# Altium integrated library ON Semi Audio Transistors.IntLib: 150 symbols (part 3 of 4)
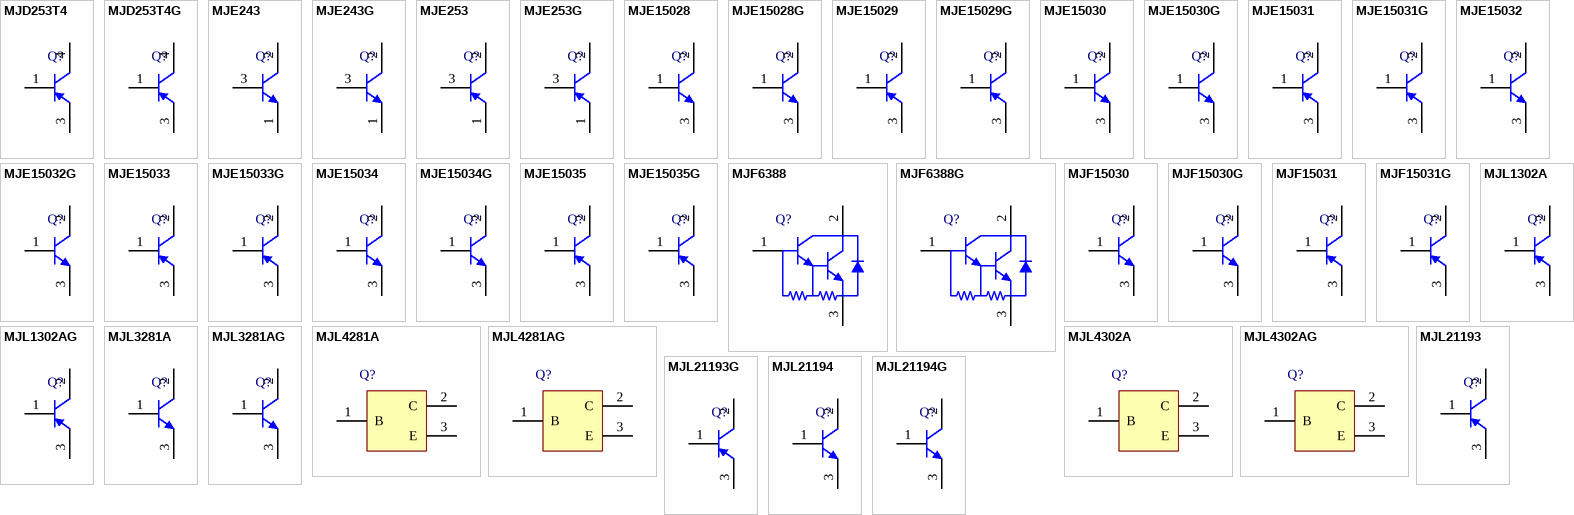
[diagram p5: symbols MJD253T4 to MJL21194G]

## MJE15034G
designator Q?
Complementary Silicon Plastic Power Transistor, NPN Device, 3-Pin TO-220, Pb-Free, Tube; Manufacturer: On Semiconductor; PartNumber: MJE15034G; fT Min (MHz): 30; IC Continuous (A): 4; DatasheetVersion: Rev. 5; PackageVersion: Rev. AG, 09/2011; PackageReference: TO-220-3-221A-09; PackageDescription: 3-Pin Flange Mount, Vertical Straight Lead, Body 9.97 x 4.445 mm, Pitch 2.54 mm; Supplier 1: Digi-Key; Supplier Part Number 1: MJE15034GOS-ND; Supplier 2: Farnell; Supplier Part Number 2: 2101379; Supplier 3: Newark; Supplier Part Number 3: 26K4452; Supplier 4: Mouser; Supplier Part Number 4: 863-MJE15034G; Packing: Tube; Polarity: NPN; RoHS: TRUE; Mounting Technology: Through Hole; ComponentLink1Description: Manufacturer URL; ComponentLink1URL: http://www.onsemi.com/; ComponentLink2Description: Datasheet; ComponentLink2URL: http://www.onsemi.cn/pub_link/Collateral/MJE15034-D.PDF; ComponentLink3Description: Package Specification; ComponentLink3URL: http://www.onsemi.com/pub_link/Collateral/221A-09.PDF
footprint ONSC-TO-220-3-221A-09 (FM, 3-Leads, Body 10.3x4.85mm, Pitch 2.54mm)
pins: 1 B, 2 C, 3 E

## MJE15035
designator Q?
Complementary Silicon Plastic Power Transistor, PNP Device, 3-Pin TO-220, Tube; Manufacturer: On Semiconductor; PartNumber: MJE15035; fT Min (MHz): 30; IC Continuous (A): 4; DatasheetVersion: Rev. 5; PackageVersion: Rev. AG, 09/2011; PackageReference: TO-220-3-221A-09; PackageDescription: 3-Pin Flange Mount, Vertical Straight Lead, Body 9.97 x 4.445 mm, Pitch 2.54 mm; Supplier 1: Digi-Key; Supplier Part Number 1: MJE15035OS-ND; Packing: Tube; Polarity: PNP; RoHS: FALSE; Mounting Technology: Through Hole; ComponentLink1Description: Manufacturer URL; ComponentLink1URL: http://www.onsemi.com/; ComponentLink2Description: Datasheet; ComponentLink2URL: http://www.onsemi.cn/pub_link/Collateral/MJE15034-D.PDF; ComponentLink3Description: Package Specification; ComponentLink3URL: http://www.onsemi.com/pub_link/Collateral/221A-09.PDF
footprint ONSC-TO-220-3-221A-09 (FM, 3-Leads, Body 10.3x4.85mm, Pitch 2.54mm)
pins: 1 B, 2 C, 3 E

## MJE15035G
designator Q?
Complementary Silicon Plastic Power Transistor, PNP Device, 3-Pin TO-220, Pb-Free, Tube; Manufacturer: On Semiconductor; PartNumber: MJE15035G; fT Min (MHz): 30; IC Continuous (A): 4; DatasheetVersion: Rev. 5; PackageVersion: Rev. AG, 09/2011; PackageReference: TO-220-3-221A-09; PackageDescription: 3-Pin Flange Mount, Vertical Straight Lead, Body 9.97 x 4.445 mm, Pitch 2.54 mm; Supplier 1: Digi-Key; Supplier Part Number 1: MJE15035GOS-ND; Supplier 2: Farnell; Supplier Part Number 2: 1861241; Supplier 3: Newark; Supplier Part Number 3: 26K4453; Supplier 4: Mouser; Supplier Part Number 4: 863-MJE15035G; Packing: Tube; Polarity: PNP; RoHS: TRUE; Mounting Technology: Through Hole; ComponentLink1Description: Manufacturer URL; ComponentLink1URL: http://www.onsemi.com/; ComponentLink2Description: Datasheet; ComponentLink2URL: http://www.onsemi.cn/pub_link/Collateral/MJE15034-D.PDF; ComponentLink3Description: Package Specification; ComponentLink3URL: http://www.onsemi.com/pub_link/Collateral/221A-09.PDF
footprint ONSC-TO-220-3-221A-09 (FM, 3-Leads, Body 10.3x4.85mm, Pitch 2.54mm)
pins: 1 B, 2 C, 3 E

## MJF6388
designator Q?
Complementary Power Darlington, for Isolated Package Application, 3-Pin TO-220, Tube; Manufacturer: On Semiconductor; PartNumber: MJF6388; hFE Max: 15000; IC Continuous (A): 10; Polarity: NPN; DatasheetVersion: Rev. 11; PackageVersion: Rev. K, 02/2009; PackageReference: TO-220-3-221D-03; PackageDescription: 3-Pin Flange Mount, Vertical Straight Lead, Body 10.295 x 4.7 mm, Pitch 2.54 mm; Supplier 1: Digi-Key; Supplier Part Number 1: MJF6388OS-ND; Packing: Tube; RoHS: FALSE; Mounting Technology: Through Hole; ComponentLink1Description: Manufacturer URL; ComponentLink1URL: http://www.onsemi.com/; ComponentLink2Description: Datasheet; ComponentLink2URL: http://www.onsemi.cn/pub_link/Collateral/MJF6388-D.PDF; ComponentLink3Description: Package Specification; ComponentLink3URL: http://www.onsemi.com/pub_link/Collateral/221D-03.PDF
footprint ONSC-TO-220-3-221D-03 (FM, 3-Leads, Body 10.65x4.9mm, Pitch 2.54mm)
pins: 1 B, 2 C, 3 E

## MJF6388G
designator Q?
Complementary Power Darlington, for Isolated Package Application, 3-Pin TO-220, Pb-Free, Tube; Manufacturer: On Semiconductor; PartNumber: MJF6388G; hFE Max: 15000; IC Continuous (A): 10; Polarity: NPN; DatasheetVersion: Rev. 11; PackageVersion: Rev. K, 02/2009; PackageReference: TO-220-3-221D-03; PackageDescription: 3-Pin Flange Mount, Vertical Straight Lead, Body 10.295 x 4.7 mm, Pitch 2.54 mm; Supplier 1: Digi-Key; Supplier Part Number 1: MJF6388GOS-ND; Supplier 2: Farnell; Supplier Part Number 2: 1136101; Supplier 3: Newark; Supplier Part Number 3: 26K4480; Supplier 4: Mouser; Supplier Part Number 4: 863-MJF6388G; Packing: Tube; RoHS: TRUE; Mounting Technology: Through Hole; ComponentLink1Description: Manufacturer URL; ComponentLink1URL: http://www.onsemi.com/; ComponentLink2Description: Datasheet; ComponentLink2URL: http://www.onsemi.cn/pub_link/Collateral/MJF6388-D.PDF; ComponentLink3Description: Package Specification; ComponentLink3URL: http://www.onsemi.com/pub_link/Collateral/221D-03.PDF
footprint ONSC-TO-220-3-221D-03 (FM, 3-Leads, Body 10.65x4.9mm, Pitch 2.54mm)
pins: 1 B, 2 C, 3 E

## MJF15030
designator Q?
Complementary Power Transistor, for Isolated Package Application, 3-Pin TO-220, Tube; Manufacturer: On Semiconductor; PartNumber: MJF15030; fT Min (MHz): 30; IC Continuous (A): 8; Polarity: NPN; DatasheetVersion: Rev. 8; PackageVersion: Rev. K, 02/2009; PackageReference: TO-220-3-221D-03; PackageDescription: 3-Pin Flange Mount, Vertical Straight Lead, Body 10.295 x 4.7 mm, Pitch 2.54 mm; Supplier 1: Digi-Key; Supplier Part Number 1: MJF15030OS-ND; Packing: Tube; RoHS: FALSE; Mounting Technology: Through Hole; ComponentLink1Description: Manufacturer URL; ComponentLink1URL: http://www.onsemi.com/; ComponentLink2Description: Datasheet; ComponentLink2URL: http://www.onsemi.cn/pub_link/Collateral/MJF15030-D.PDF; ComponentLink3Description: Package Specification; ComponentLink3URL: http://www.onsemi.com/pub_link/Collateral/221D-03.PDF
footprint ONSC-TO-220-3-221D-03 (FM, 3-Leads, Body 10.65x4.9mm, Pitch 2.54mm)
pins: 1 B, 2 C, 3 E

## MJF15030G
designator Q?
Complementary Power Transistor, for Isolated Package Application, 3-Pin TO-220, Pb-Free, Tube; Manufacturer: On Semiconductor; PartNumber: MJF15030G; fT Min (MHz): 30; IC Continuous (A): 8; Polarity: NPN; DatasheetVersion: Rev. 8; PackageVersion: Rev. K, 02/2009; PackageReference: TO-220-3-221D-03; PackageDescription: 3-Pin Flange Mount, Vertical Straight Lead, Body 10.295 x 4.7 mm, Pitch 2.54 mm; Supplier 1: Digi-Key; Supplier Part Number 1: MJF15030GOS-ND; Supplier 2: Farnell; Supplier Part Number 2: 9556303; Supplier 3: Newark; Supplier Part Number 3: 26K4476; Supplier 4: Mouser; Supplier Part Number 4: 863-MJF15030G; Packing: Tube; RoHS: TRUE; Mounting Technology: Through Hole; ComponentLink1Description: Manufacturer URL; ComponentLink1URL: http://www.onsemi.com/; ComponentLink2Description: Datasheet; ComponentLink2URL: http://www.onsemi.cn/pub_link/Collateral/MJF15030-D.PDF; ComponentLink3Description: Package Specification; ComponentLink3URL: http://www.onsemi.com/pub_link/Collateral/221D-03.PDF
footprint ONSC-TO-220-3-221D-03 (FM, 3-Leads, Body 10.65x4.9mm, Pitch 2.54mm)
pins: 1 B, 2 C, 3 E

## MJF15031
designator Q?
Complementary Power Transistor, for Isolated Package Application, 3-Pin TO-220, Tube; Manufacturer: On Semiconductor; PartNumber: MJF15031; fT Min (MHz): 30; IC Continuous (A): 8; Polarity: PNP; DatasheetVersion: Rev. 8; PackageVersion: Rev. K, 02/2009; PackageReference: TO-220-3-221D-03; PackageDescription: 3-Pin Flange Mount, Vertical Straight Lead, Body 10.295 x 4.7 mm, Pitch 2.54 mm; Supplier 1: Digi-Key; Supplier Part Number 1: MJF15031OS-ND; Packing: Tube; RoHS: FALSE; Mounting Technology: Through Hole; ComponentLink1Description: Manufacturer URL; ComponentLink1URL: http://www.onsemi.com/; ComponentLink2Description: Datasheet; ComponentLink2URL: http://www.onsemi.cn/pub_link/Collateral/MJF15030-D.PDF; ComponentLink3Description: Package Specification; ComponentLink3URL: http://www.onsemi.com/pub_link/Collateral/221D-03.PDF
footprint ONSC-TO-220-3-221D-03 (FM, 3-Leads, Body 10.65x4.9mm, Pitch 2.54mm)
pins: 1 B, 2 C, 3 E

## MJF15031G
designator Q?
Complementary Power Transistor, for Isolated Package Application, 3-Pin TO-220, Pb-Free, Tube; Manufacturer: On Semiconductor; PartNumber: MJF15031G; fT Min (MHz): 30; IC Continuous (A): 8; Polarity: PNP; DatasheetVersion: Rev. 8; PackageVersion: Rev. K, 02/2009; PackageReference: TO-220-3-221D-03; PackageDescription: 3-Pin Flange Mount, Vertical Straight Lead, Body 10.295 x 4.7 mm, Pitch 2.54 mm; Supplier 1: Digi-Key; Supplier Part Number 1: MJF15031GOS-ND; Supplier 2: Farnell; Supplier Part Number 2: 9556311; Supplier 3: Newark; Supplier Part Number 3: 26K4477; Supplier 4: Mouser; Supplier Part Number 4: 863-MJF15031G; Packing: Tube; RoHS: TRUE; Mounting Technology: Through Hole; ComponentLink1Description: Manufacturer URL; ComponentLink1URL: http://www.onsemi.com/; ComponentLink2Description: Datasheet; ComponentLink2URL: http://www.onsemi.cn/pub_link/Collateral/MJF15030-D.PDF; ComponentLink3Description: Package Specification; ComponentLink3URL: http://www.onsemi.com/pub_link/Collateral/221D-03.PDF
footprint ONSC-TO-220-3-221D-03 (FM, 3-Leads, Body 10.65x4.9mm, Pitch 2.54mm)
pins: 1 B, 2 C, 3 E

## MJL1302A
designator Q?
Complementary Bipolar Power Transistor, 3-Pin TO-3BPL, Tube; Manufacturer: On Semiconductor; PartNumber: MJL1302A; fT Min (MHz): 30; hFE Max: 150; IC Continuous (A): 15; Polarity: PNP; DatasheetVersion: Rev. 11; PackageVersion: Rev. J, 12/2004; PackageReference: TO-3BPL-3-340G-02; PackageDescription: 3-Pin Flange Mount, Vertical Straight Lead, Body 19.8 x 5 mm, Pitch 5.45 mm; Supplier 1: Digi-Key; Supplier Part Number 1: MJL1302AOS-ND; Packing: Tube; RoHS: FALSE; Mounting Technology: Through Hole; ComponentLink1Description: Manufacturer URL; ComponentLink1URL: http://www.onsemi.com/; ComponentLink2Description: Datasheet; ComponentLink2URL: http://www.onsemi.cn/pub_link/Collateral/MJL3281A-D.PDF; ComponentLink3Description: Package Specification; ComponentLink3URL: http://www.onsemi.cn/pub_link/Collateral/340G-02.PDF
footprint ONSC-TO-3BPL-3-340G-02 (FM, 3-Leads, Body 20.3x5.3mm, Pitch 5.45mm)
pins: 1 B, 2 C, 3 E

## MJL1302AG
designator Q?
Complementary Bipolar Power Transistor, 3-Pin TO-3BPL, Pb-Free, Tube; Manufacturer: On Semiconductor; PartNumber: MJL1302AG; fT Min (MHz): 30; hFE Max: 150; IC Continuous (A): 15; Polarity: PNP; DatasheetVersion: Rev. 11; PackageVersion: Rev. J, 12/2004; PackageReference: TO-3BPL-3-340G-02; PackageDescription: 3-Pin Flange Mount, Vertical Straight Lead, Body 19.8 x 5 mm, Pitch 5.45 mm; Supplier 1: Digi-Key; Supplier Part Number 1: MJL1302AGOS-ND; Supplier 2: Farnell; Supplier Part Number 2: 9557040; Supplier 3: Newark; Supplier Part Number 3: 26K4489; Supplier 4: Mouser; Supplier Part Number 4: 863-MJL1302AG; Packing: Tube; RoHS: TRUE; Mounting Technology: Through Hole; ComponentLink1Description: Manufacturer URL; ComponentLink1URL: http://www.onsemi.com/; ComponentLink2Description: Datasheet; ComponentLink2URL: http://www.onsemi.cn/pub_link/Collateral/MJL3281A-D.PDF; ComponentLink3Description: Package Specification; ComponentLink3URL: http://www.onsemi.cn/pub_link/Collateral/340G-02.PDF
footprint ONSC-TO-3BPL-3-340G-02 (FM, 3-Leads, Body 20.3x5.3mm, Pitch 5.45mm)
pins: 1 B, 2 C, 3 E

## MJL3281A
designator Q?
Complementary Bipolar Power Transistor, 3-Pin TO-3BPL, Tube; Manufacturer: On Semiconductor; PartNumber: MJL3281A; fT Min (MHz): 30; hFE Max: 150; IC Continuous (A): 15; Polarity: NPN; DatasheetVersion: Rev. 11; PackageVersion: Rev. J, 12/2004; PackageReference: TO-3BPL-3-340G-02; PackageDescription: 3-Pin Flange Mount, Vertical Straight Lead, Body 19.8 x 5 mm, Pitch 5.45 mm; Supplier 1: Digi-Key; Supplier Part Number 1: MJL3281AOS-ND; Packing: Tube; RoHS: FALSE; Mounting Technology: Through Hole; ComponentLink1Description: Manufacturer URL; ComponentLink1URL: http://www.onsemi.com/; ComponentLink2Description: Datasheet; ComponentLink2URL: http://www.onsemi.cn/pub_link/Collateral/MJL3281A-D.PDF; ComponentLink3Description: Package Specification; ComponentLink3URL: http://www.onsemi.cn/pub_link/Collateral/340G-02.PDF
footprint ONSC-TO-3BPL-3-340G-02 (FM, 3-Leads, Body 20.3x5.3mm, Pitch 5.45mm)
pins: 1 B, 2 C, 3 E

## MJL3281AG
designator Q?
Complementary Bipolar Power Transistor, 3-Pin TO-3BPL, Pb-Free, Tube; Manufacturer: On Semiconductor; PartNumber: MJL3281AG; fT Min (MHz): 30; hFE Max: 150; IC Continuous (A): 15; Polarity: NPN; DatasheetVersion: Rev. 11; PackageVersion: Rev. J, 12/2004; PackageReference: TO-3BPL-3-340G-02; PackageDescription: 3-Pin Flange Mount, Vertical Straight Lead, Body 19.8 x 5 mm, Pitch 5.45 mm; Supplier 1: Digi-Key; Supplier Part Number 1: MJL3281AGOS-ND; Supplier 2: Farnell; Supplier Part Number 2: 1172585; Supplier 3: Mouser; Supplier Part Number 3: 863-MJL3281AG; Packing: Tube; RoHS: TRUE; Mounting Technology: Through Hole; ComponentLink1Description: Manufacturer URL; ComponentLink1URL: http://www.onsemi.com/; ComponentLink2Description: Datasheet; ComponentLink2URL: http://www.onsemi.cn/pub_link/Collateral/MJL3281A-D.PDF; ComponentLink3Description: Package Specification; ComponentLink3URL: http://www.onsemi.cn/pub_link/Collateral/340G-02.PDF
footprint ONSC-TO-3BPL-3-340G-02 (FM, 3-Leads, Body 20.3x5.3mm, Pitch 5.45mm)
pins: 1 B, 2 C, 3 E

## MJL4281A
designator Q?
Complementary NPN Silicon Power Bipolar Transistor, 3-Pin TO-3BPL, Tube; Manufacturer: On Semiconductor; PartNumber: MJL4281A; fT Min (MHz): 35; hFE Max: 250; IC Continuous (A): 15; DatasheetVersion: Rev. 3; PackageVersion: Rev. J, 12/2004; PackageReference: TO-3BPL-3-340G-02; PackageDescription: 3-Pin Flange Mount, Vertical Straight Lead, Body 19.8 x 5 mm, Pitch 5.45 mm; Supplier 1: Digi-Key; Supplier Part Number 1: MJL4281AOS-ND; Packing: Tube; Polarity: NPN; RoHS: FALSE; Mounting Technology: Through Hole; ComponentLink1Description: Manufacturer URL; ComponentLink1URL: http://www.onsemi.com/; ComponentLink2Description: Datasheet; ComponentLink2URL: http://www.onsemi.cn/pub_link/Collateral/MJL4281A-D.PDF; ComponentLink3Description: Package Specification; ComponentLink3URL: http://www.onsemi.cn/pub_link/Collateral/340G-02.PDF
footprint ONSC-TO-3BPL-3-340G-02 (FM, 3-Leads, Body 20.3x5.3mm, Pitch 5.45mm)
pins: 1 B, 2 C, 3 E

## MJL4281AG
designator Q?
Complementary NPN Silicon Power Bipolar Transistor, 3-Pin TO-3BPL, Pb-Free, Tube; Manufacturer: On Semiconductor; PartNumber: MJL4281AG; fT Min (MHz): 35; hFE Max: 250; IC Continuous (A): 15; DatasheetVersion: Rev. 3; PackageVersion: Rev. J, 12/2004; PackageReference: TO-3BPL-3-340G-02; PackageDescription: 3-Pin Flange Mount, Vertical Straight Lead, Body 19.8 x 5 mm, Pitch 5.45 mm; Supplier 1: Digi-Key; Supplier Part Number 1: MJL4281AGOS-ND; Supplier 2: Farnell; Supplier Part Number 2: 2101383; Supplier 3: Newark; Supplier Part Number 3: 26K4494; Supplier 4: Mouser; Supplier Part Number 4: 863-MJL4281AG; Packing: Tube; Polarity: NPN; RoHS: TRUE; Mounting Technology: Through Hole; ComponentLink1Description: Manufacturer URL; ComponentLink1URL: http://www.onsemi.com/; ComponentLink2Description: Datasheet; ComponentLink2URL: http://www.onsemi.cn/pub_link/Collateral/MJL4281A-D.PDF; ComponentLink3Description: Package Specification; ComponentLink3URL: http://www.onsemi.cn/pub_link/Collateral/340G-02.PDF
footprint ONSC-TO-3BPL-3-340G-02 (FM, 3-Leads, Body 20.3x5.3mm, Pitch 5.45mm)
pins: 1 B, 2 C, 3 E

## MJL4302A
designator Q?
Complementary PNP Silicon Power Bipolar Transistor, 3-Pin TO-3BPL, Tube; Manufacturer: On Semiconductor; PartNumber: MJL4302A; fT Min (MHz): 35; hFE Max: 250; IC Continuous (A): 15; DatasheetVersion: Rev. 3; PackageVersion: Rev. J, 12/2004; PackageReference: TO-3BPL-3-340G-02; PackageDescription: 3-Pin Flange Mount, Vertical Straight Lead, Body 19.8 x 5 mm, Pitch 5.45 mm; Supplier 1: Digi-Key; Supplier Part Number 1: MJL4302AOS-ND; Packing: Tube; Polarity: PNP; RoHS: FALSE; Mounting Technology: Through Hole; ComponentLink1Description: Manufacturer URL; ComponentLink1URL: http://www.onsemi.com/; ComponentLink2Description: Datasheet; ComponentLink2URL: http://www.onsemi.cn/pub_link/Collateral/MJL4281A-D.PDF; ComponentLink3Description: Package Specification; ComponentLink3URL: http://www.onsemi.cn/pub_link/Collateral/340G-02.PDF
footprint ONSC-TO-3BPL-3-340G-02 (FM, 3-Leads, Body 20.3x5.3mm, Pitch 5.45mm)
pins: 1 B, 2 C, 3 E

## MJL4302AG
designator Q?
Complementary PNP Silicon Power Bipolar Transistor, 3-Pin TO-3BPL, Pb-Free, Tube; Manufacturer: On Semiconductor; PartNumber: MJL4302AG; fT Min (MHz): 35; hFE Max: 250; IC Continuous (A): 15; DatasheetVersion: Rev. 3; PackageVersion: Rev. J, 12/2004; PackageReference: TO-3BPL-3-340G-02; PackageDescription: 3-Pin Flange Mount, Vertical Straight Lead, Body 19.8 x 5 mm, Pitch 5.45 mm; Supplier 1: Digi-Key; Supplier Part Number 1: MJL4302AGOS-ND; Supplier 2: Farnell; Supplier Part Number 2: 1861242; Supplier 3: Newark; Supplier Part Number 3: 26K4495; Supplier 4: Mouser; Supplier Part Number 4: 863-MJL4302AG; Packing: Tube; Polarity: PNP; RoHS: TRUE; Mounting Technology: Through Hole; ComponentLink1Description: Manufacturer URL; ComponentLink1URL: http://www.onsemi.com/; ComponentLink2Description: Datasheet; ComponentLink2URL: http://www.onsemi.cn/pub_link/Collateral/MJL4281A-D.PDF; ComponentLink3Description: Package Specification; ComponentLink3URL: http://www.onsemi.cn/pub_link/Collateral/340G-02.PDF
footprint ONSC-TO-3BPL-3-340G-02 (FM, 3-Leads, Body 20.3x5.3mm, Pitch 5.45mm)
pins: 1 B, 2 C, 3 E

## MJL21193
designator Q?
Silicon Power Transistor, 3-Pin TO-3BPL, Tube; Manufacturer: On Semiconductor; PartNumber: MJL21193; fT Min (MHz): 4; hFE Max: 75; IC Continuous (A): 16; Polarity: PNP; DatasheetVersion: Rev. 7; PackageVersion: Rev. J, 12/2004; PackageReference: TO-3BPL-3-340G-02; PackageDescription: 3-Pin Flange Mount, Vertical Straight Lead, Body 19.8 x 5 mm, Pitch 5.45 mm; Supplier 1: Digi-Key; Supplier Part Number 1: MJL21193OS-ND; Packing: Tube; RoHS: FALSE; Mounting Technology: Through Hole; ComponentLink1Description: Manufacturer URL; ComponentLink1URL: http://www.onsemi.com/; ComponentLink2Description: Datasheet; ComponentLink2URL: http://www.onsemi.cn/pub_link/Collateral/MJL21193-D.PDF; ComponentLink3Description: Package Specification; ComponentLink3URL: http://www.onsemi.cn/pub_link/Collateral/340G-02.PDF
footprint ONSC-TO-3BPL-3-340G-02 (FM, 3-Leads, Body 20.3x5.3mm, Pitch 5.45mm)
pins: 1 B, 2 C, 3 E

## MJL21193G
designator Q?
Silicon Power Transistor, 3-Pin TO-3BPL, Pb-Free, Tube; Manufacturer: On Semiconductor; PartNumber: MJL21193G; fT Min (MHz): 4; hFE Max: 75; IC Continuous (A): 16; Polarity: PNP; DatasheetVersion: Rev. 7; PackageVersion: Rev. J, 12/2004; PackageReference: TO-3BPL-3-340G-02; PackageDescription: 3-Pin Flange Mount, Vertical Straight Lead, Body 19.8 x 5 mm, Pitch 5.45 mm; Supplier 1: Digi-Key; Supplier Part Number 1: MJL21193GOS-ND; Supplier 2: Farnell; Supplier Part Number 2: 9555781; Supplier 3: Newark; Supplier Part Number 3: 26K4490; Supplier 4: Mouser; Supplier Part Number 4: 863-MJL21193G; Packing: Tube; RoHS: TRUE; Mounting Technology: Through Hole; ComponentLink1Description: Manufacturer URL; ComponentLink1URL: http://www.onsemi.com/; ComponentLink2Description: Datasheet; ComponentLink2URL: http://www.onsemi.cn/pub_link/Collateral/MJL21193-D.PDF; ComponentLink3Description: Package Specification; ComponentLink3URL: http://www.onsemi.cn/pub_link/Collateral/340G-02.PDF
footprint ONSC-TO-3BPL-3-340G-02 (FM, 3-Leads, Body 20.3x5.3mm, Pitch 5.45mm)
pins: 1 B, 2 C, 3 E

## MJL21194
designator Q?
Silicon Power Transistor, 3-Pin TO-3BPL, Tube; Manufacturer: On Semiconductor; PartNumber: MJL21194; fT Min (MHz): 4; hFE Max: 75; IC Continuous (A): 16; Polarity: NPN; DatasheetVersion: Rev. 7; PackageVersion: Rev. J, 12/2004; PackageReference: TO-3BPL-3-340G-02; PackageDescription: 3-Pin Flange Mount, Vertical Straight Lead, Body 19.8 x 5 mm, Pitch 5.45 mm; Supplier 1: Digi-Key; Supplier Part Number 1: MJL21194OS-ND; Supplier 2: Newark; Supplier Part Number 2: 07F8487; Packing: Tube; RoHS: FALSE; Mounting Technology: Through Hole; ComponentLink1Description: Manufacturer URL; ComponentLink1URL: http://www.onsemi.com/; ComponentLink2Description: Datasheet; ComponentLink2URL: http://www.onsemi.cn/pub_link/Collateral/MJL21193-D.PDF; ComponentLink3Description: Package Specification; ComponentLink3URL: http://www.onsemi.cn/pub_link/Collateral/340G-02.PDF
footprint ONSC-TO-3BPL-3-340G-02 (FM, 3-Leads, Body 20.3x5.3mm, Pitch 5.45mm)
pins: 1 B, 2 C, 3 E

## MJL21194G
designator Q?
Silicon Power Transistor, 3-Pin TO-3BPL, Pb-Free, Tube; Manufacturer: On Semiconductor; PartNumber: MJL21194G; fT Min (MHz): 4; hFE Max: 75; IC Continuous (A): 16; Polarity: NPN; DatasheetVersion: Rev. 7; PackageVersion: Rev. J, 12/2004; PackageReference: TO-3BPL-3-340G-02; PackageDescription: 3-Pin Flange Mount, Vertical Straight Lead, Body 19.8 x 5 mm, Pitch 5.45 mm; Supplier 1: Digi-Key; Supplier Part Number 1: MJL21194GOS-ND; Supplier 2: Farnell; Supplier Part Number 2: 9555790; Supplier 3: Newark; Supplier Part Number 3: 26K4491; Supplier 4: Mouser; Supplier Part Number 4: 863-MJL21194G; Packing: Tube; RoHS: TRUE; Mounting Technology: Through Hole; ComponentLink1Description: Manufacturer URL; ComponentLink1URL: http://www.onsemi.com/; ComponentLink2Description: Datasheet; ComponentLink2URL: http://www.onsemi.cn/pub_link/Collateral/MJL21193-D.PDF; ComponentLink3Description: Package Specification; ComponentLink3URL: http://www.onsemi.cn/pub_link/Collateral/340G-02.PDF
footprint ONSC-TO-3BPL-3-340G-02 (FM, 3-Leads, Body 20.3x5.3mm, Pitch 5.45mm)
pins: 1 B, 2 C, 3 E

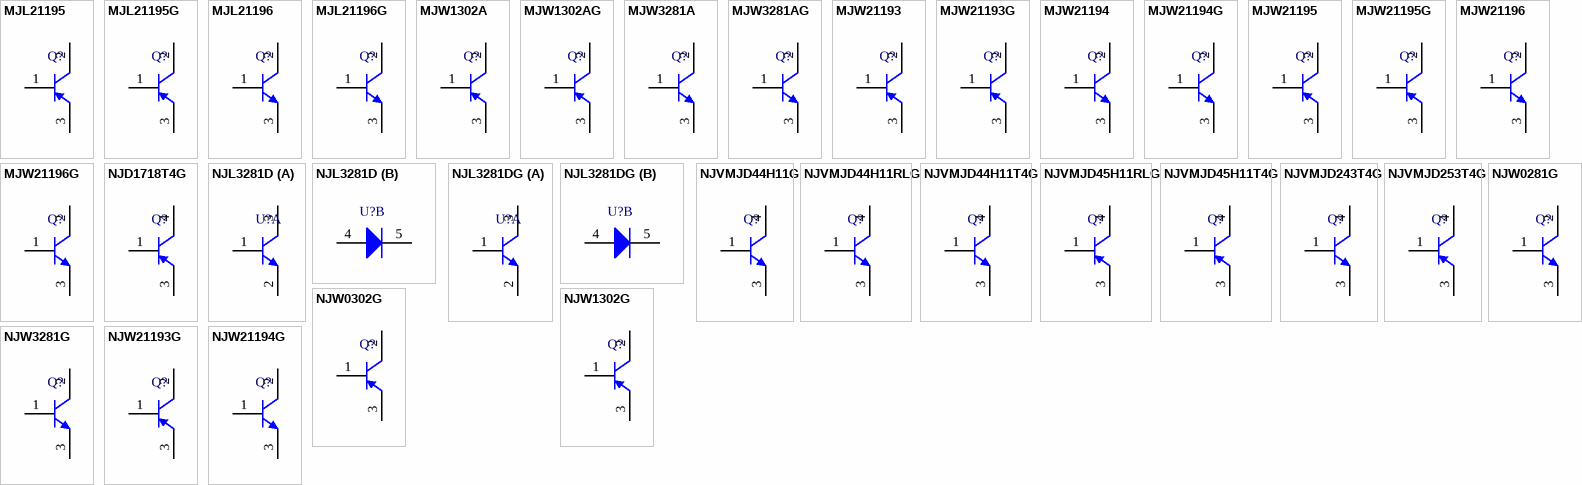
[diagram p3: symbols MJL21195 to NJW21194G]

## MJL21195
designator Q?
Silicon Power Transistor, 3-Pin TO-3BPL, Tube; Manufacturer: On Semiconductor; PartNumber: MJL21195; fT Min (MHz): 4; hFE Max: 100; IC Continuous (A): 16; Polarity: PNP; DatasheetVersion: Rev. 5; PackageVersion: Rev. J, 12/2004; PackageReference: TO-3BPL-3-340G-02; PackageDescription: 3-Pin Flange Mount, Vertical Straight Lead, Body 19.8 x 5 mm, Pitch 5.45 mm; Supplier 1: Digi-Key; Supplier Part Number 1: MJL21195OS-ND; Packing: Tube; RoHS: FALSE; Mounting Technology: Through Hole; ComponentLink1Description: Manufacturer URL; ComponentLink1URL: http://www.onsemi.com/; ComponentLink2Description: Datasheet; ComponentLink2URL: http://www.onsemi.com/pub_link/Collateral/MJL21195-D.PDF; ComponentLink3Description: Package Specification; ComponentLink3URL: http://www.onsemi.cn/pub_link/Collateral/340G-02.PDF
footprint ONSC-TO-3BPL-3-340G-02 (FM, 3-Leads, Body 20.3x5.3mm, Pitch 5.45mm)
pins: 1 B, 2 C, 3 E

## MJL21195G
designator Q?
Silicon Power Transistor, 3-Pin TO-3BPL, Pb-Free, Tube; Manufacturer: On Semiconductor; PartNumber: MJL21195G; fT Min (MHz): 4; hFE Max: 100; IC Continuous (A): 16; Polarity: PNP; DatasheetVersion: Rev. 5; PackageVersion: Rev. J, 12/2004; PackageReference: TO-3BPL-3-340G-02; PackageDescription: 3-Pin Flange Mount, Vertical Straight Lead, Body 19.8 x 5 mm, Pitch 5.45 mm; Supplier 1: Digi-Key; Supplier Part Number 1: MJL21195GOS-ND; Supplier 2: Newark; Supplier Part Number 2: 26K4492; Supplier 3: Mouser; Supplier Part Number 3: 863-MJL21195G; Packing: Tube; RoHS: TRUE; Mounting Technology: Through Hole; ComponentLink1Description: Manufacturer URL; ComponentLink1URL: http://www.onsemi.com/; ComponentLink2Description: Datasheet; ComponentLink2URL: http://www.onsemi.com/pub_link/Collateral/MJL21195-D.PDF; ComponentLink3Description: Package Specification; ComponentLink3URL: http://www.onsemi.cn/pub_link/Collateral/340G-02.PDF
footprint ONSC-TO-3BPL-3-340G-02 (FM, 3-Leads, Body 20.3x5.3mm, Pitch 5.45mm)
pins: 1 B, 2 C, 3 E

## MJL21196
designator Q?
Silicon Power Transistor, 3-Pin TO-3BPL, Tube; Manufacturer: On Semiconductor; PartNumber: MJL21196; fT Min (MHz): 4; hFE Max: 100; IC Continuous (A): 16; Polarity: NPN; DatasheetVersion: Rev. 5; PackageVersion: Rev. J, 12/2004; PackageReference: TO-3BPL-3-340G-02; PackageDescription: 3-Pin Flange Mount, Vertical Straight Lead, Body 19.8 x 5 mm, Pitch 5.45 mm; Supplier 1: Digi-Key; Supplier Part Number 1: MJL21196OS-ND; Packing: Tube; RoHS: FALSE; Mounting Technology: Through Hole; ComponentLink1Description: Manufacturer URL; ComponentLink1URL: http://www.onsemi.com/; ComponentLink2Description: Datasheet; ComponentLink2URL: http://www.onsemi.com/pub_link/Collateral/MJL21195-D.PDF; ComponentLink3Description: Package Specification; ComponentLink3URL: http://www.onsemi.cn/pub_link/Collateral/340G-02.PDF
footprint ONSC-TO-3BPL-3-340G-02 (FM, 3-Leads, Body 20.3x5.3mm, Pitch 5.45mm)
pins: 1 B, 2 C, 3 E

## MJL21196G
designator Q?
Silicon Power Transistor, 3-Pin TO-3BPL, Pb-Free, Tube; Manufacturer: On Semiconductor; PartNumber: MJL21196G; fT Min (MHz): 4; hFE Max: 100; IC Continuous (A): 16; Polarity: NPN; DatasheetVersion: Rev. 5; PackageVersion: Rev. J, 12/2004; PackageReference: TO-3BPL-3-340G-02; PackageDescription: 3-Pin Flange Mount, Vertical Straight Lead, Body 19.8 x 5 mm, Pitch 5.45 mm; Supplier 1: Digi-Key; Supplier Part Number 1: MJL21196GOS-ND; Supplier 2: Newark; Supplier Part Number 2: 26K4493; Supplier 3: Mouser; Supplier Part Number 3: 863-MJL21196G; Packing: Tube; RoHS: TRUE; Mounting Technology: Through Hole; ComponentLink1Description: Manufacturer URL; ComponentLink1URL: http://www.onsemi.com/; ComponentLink2Description: Datasheet; ComponentLink2URL: http://www.onsemi.com/pub_link/Collateral/MJL21195-D.PDF; ComponentLink3Description: Package Specification; ComponentLink3URL: http://www.onsemi.cn/pub_link/Collateral/340G-02.PDF
footprint ONSC-TO-3BPL-3-340G-02 (FM, 3-Leads, Body 20.3x5.3mm, Pitch 5.45mm)
pins: 1 B, 2 C, 3 E

## MJW1302A
designator Q?
Complementary PNP Silicon Power Bipolar Transistor, 3-Pin TO-247, Tube; Manufacturer: On Semiconductor; PartNumber: MJW1302A; hFE Max: 200; IC Continuous (A): 15; DatasheetVersion: Rev. 4; PackageVersion: Rev. F, 10/2011; PackageReference: TO-247-3-340L-02; PackageDescription: 3-Pin Flange Mount, Vertical Straight Lead, Body 16.005 x 5 mm, Pitch 5.45 mm; Supplier 1: Digi-Key; Supplier Part Number 1: MJW1302AOS-ND; Packing: Tube; Polarity: PNP; RoHS: FALSE; Mounting Technology: Through Hole; ComponentLink1Description: Manufacturer URL; ComponentLink1URL: http://www.onsemi.com/; ComponentLink2Description: Datasheet; ComponentLink2URL: http://www.onsemi.cn/pub_link/Collateral/MJW3281A-D.PDF; ComponentLink3Description: Package Specification; ComponentLink3URL: http://www.onsemi.cn/pub_link/Collateral/340L-02.PDF
footprint ONSC-TO-247-3-340L-02 (FM, 3-Leads, Body 16.3x5.3mm, Pitch 5.45mm)
pins: 1 B, 2 C, 3 E

## MJW1302AG
designator Q?
Complementary PNP Silicon Power Bipolar Transistor, 3-Pin TO-247, Pb-Free, Tube; Manufacturer: On Semiconductor; PartNumber: MJW1302AG; hFE Max: 200; IC Continuous (A): 15; DatasheetVersion: Rev. 4; PackageVersion: Rev. F, 10/2011; PackageReference: TO-247-3-340L-02; PackageDescription: 3-Pin Flange Mount, Vertical Straight Lead, Body 16.005 x 5 mm, Pitch 5.45 mm; Supplier 1: Digi-Key; Supplier Part Number 1: MJW1302AGOS-ND; Supplier 2: Farnell; Supplier Part Number 2: 1705822; Supplier 3: Newark; Supplier Part Number 3: 26K4496; Supplier 4: Mouser; Supplier Part Number 4: 863-MJW1302AG; Packing: Tube; Polarity: PNP; RoHS: TRUE; Mounting Technology: Through Hole; ComponentLink1Description: Manufacturer URL; ComponentLink1URL: http://www.onsemi.com/; ComponentLink2Description: Datasheet; ComponentLink2URL: http://www.onsemi.cn/pub_link/Collateral/MJW3281A-D.PDF; ComponentLink3Description: Package Specification; ComponentLink3URL: http://www.onsemi.cn/pub_link/Collateral/340L-02.PDF
footprint ONSC-TO-247-3-340L-02 (FM, 3-Leads, Body 16.3x5.3mm, Pitch 5.45mm)
pins: 1 B, 2 C, 3 E

## MJW3281A
designator Q?
Complementary NPN Silicon Power Bipolar Transistor, 3-Pin TO-247, Tube; Manufacturer: On Semiconductor; PartNumber: MJW3281A; hFE Max: 200; IC Continuous (A): 15; DatasheetVersion: Rev. 4; PackageVersion: Rev. F, 10/2011; PackageReference: TO-247-3-340L-02; PackageDescription: 3-Pin Flange Mount, Vertical Straight Lead, Body 16.005 x 5 mm, Pitch 5.45 mm; Supplier 1: Digi-Key; Supplier Part Number 1: MJW3281AOS-ND; Packing: Tube; Polarity: NPN; RoHS: FALSE; Mounting Technology: Through Hole; ComponentLink1Description: Manufacturer URL; ComponentLink1URL: http://www.onsemi.com/; ComponentLink2Description: Datasheet; ComponentLink2URL: http://www.onsemi.cn/pub_link/Collateral/MJW3281A-D.PDF; ComponentLink3Description: Package Specification; ComponentLink3URL: http://www.onsemi.cn/pub_link/Collateral/340L-02.PDF
footprint ONSC-TO-247-3-340L-02 (FM, 3-Leads, Body 16.3x5.3mm, Pitch 5.45mm)
pins: 1 B, 2 C, 3 E

## MJW3281AG
designator Q?
Complementary NPN Silicon Power Bipolar Transistor, 3-Pin TO-247, Pb-Free, Tube; Manufacturer: On Semiconductor; PartNumber: MJW3281AG; hFE Max: 200; IC Continuous (A): 15; DatasheetVersion: Rev. 4; PackageVersion: Rev. F, 10/2011; PackageReference: TO-247-3-340L-02; PackageDescription: 3-Pin Flange Mount, Vertical Straight Lead, Body 16.005 x 5 mm, Pitch 5.45 mm; Supplier 1: Digi-Key; Supplier Part Number 1: MJW3281AGOS-ND; Supplier 2: Newark; Supplier Part Number 2: 26K4503; Supplier 3: Mouser; Supplier Part Number 3: 863-MJW3281AG; Packing: Tube; Polarity: NPN; RoHS: TRUE; Mounting Technology: Through Hole; ComponentLink1Description: Manufacturer URL; ComponentLink1URL: http://www.onsemi.com/; ComponentLink2Description: Datasheet; ComponentLink2URL: http://www.onsemi.cn/pub_link/Collateral/MJW3281A-D.PDF; ComponentLink3Description: Package Specification; ComponentLink3URL: http://www.onsemi.cn/pub_link/Collateral/340L-02.PDF
footprint ONSC-TO-247-3-340L-02 (FM, 3-Leads, Body 16.3x5.3mm, Pitch 5.45mm)
pins: 1 B, 2 C, 3 E

## MJW21193
designator Q?
Silicon Power Transistor, 3-Pin TO-247-3, Tube; Manufacturer: On Semiconductor; PartNumber: MJW21193; fT Min (MHz): 4; hFE Max: 80; IC Continuous (A): 16; Polarity: PNP; DatasheetVersion: Rev. 5; PackageVersion: Rev. F, 10/2011; PackageReference: TO-247-3-340L-02; PackageDescription: 3-Pin Flange Mount, Vertical Straight Lead, Body 16.005 x 5 mm, Pitch 5.45 mm; Supplier 1: Digi-Key; Supplier Part Number 1: MJW21193OS-ND; Packing: Tube; RoHS: FALSE; Mounting Technology: Through Hole; ComponentLink1Description: Manufacturer URL; ComponentLink1URL: http://www.onsemi.com/; ComponentLink2Description: Datasheet; ComponentLink2URL: http://www.onsemi.cn/pub_link/Collateral/MJW21193-D.PDF; ComponentLink3Description: Package Specification; ComponentLink3URL: http://www.onsemi.cn/pub_link/Collateral/340L-02.PDF
footprint ONSC-TO-247-3-340L-02 (FM, 3-Leads, Body 16.3x5.3mm, Pitch 5.45mm)
pins: 1 B, 2 C, 3 E

## MJW21193G
designator Q?
Silicon Power Transistor, 3-Pin TO-247-3, Pb-Free, Tube; Manufacturer: On Semiconductor; PartNumber: MJW21193G; fT Min (MHz): 4; hFE Max: 80; IC Continuous (A): 16; Polarity: PNP; DatasheetVersion: Rev. 5; PackageVersion: Rev. F, 10/2011; PackageReference: TO-247-3-340L-02; PackageDescription: 3-Pin Flange Mount, Vertical Straight Lead, Body 16.005 x 5 mm, Pitch 5.45 mm; Supplier 1: Digi-Key; Supplier Part Number 1: MJW21193GOS-ND; Supplier 2: Farnell; Supplier Part Number 2: 1703988; Supplier 3: Newark; Supplier Part Number 3: 26K4499; Supplier 4: Mouser; Supplier Part Number 4: 863-MJW21193G; Packing: Tube; RoHS: TRUE; Mounting Technology: Through Hole; ComponentLink1Description: Manufacturer URL; ComponentLink1URL: http://www.onsemi.com/; ComponentLink2Description: Datasheet; ComponentLink2URL: http://www.onsemi.cn/pub_link/Collateral/MJW21193-D.PDF; ComponentLink3Description: Package Specification; ComponentLink3URL: http://www.onsemi.cn/pub_link/Collateral/340L-02.PDF
footprint ONSC-TO-247-3-340L-02 (FM, 3-Leads, Body 16.3x5.3mm, Pitch 5.45mm)
pins: 1 B, 2 C, 3 E

## MJW21194
designator Q?
Silicon Power Transistor, 3-Pin TO-247-3, Tube; Manufacturer: On Semiconductor; PartNumber: MJW21194; fT Min (MHz): 4; hFE Max: 80; IC Continuous (A): 16; Polarity: NPN; DatasheetVersion: Rev. 5; PackageVersion: Rev. F, 10/2011; PackageReference: TO-247-3-340L-02; PackageDescription: 3-Pin Flange Mount, Vertical Straight Lead, Body 16.005 x 5 mm, Pitch 5.45 mm; Supplier 1: Digi-Key; Supplier Part Number 1: MJW21194OS-ND; Packing: Tube; RoHS: FALSE; Mounting Technology: Through Hole; ComponentLink1Description: Manufacturer URL; ComponentLink1URL: http://www.onsemi.com/; ComponentLink2Description: Datasheet; ComponentLink2URL: http://www.onsemi.cn/pub_link/Collateral/MJW21193-D.PDF; ComponentLink3Description: Package Specification; ComponentLink3URL: http://www.onsemi.cn/pub_link/Collateral/340L-02.PDF
footprint ONSC-TO-247-3-340L-02 (FM, 3-Leads, Body 16.3x5.3mm, Pitch 5.45mm)
pins: 1 B, 2 C, 3 E

## MJW21194G
designator Q?
Silicon Power Transistor, 3-Pin TO-247-3, Pb-Free, Tube; Manufacturer: On Semiconductor; PartNumber: MJW21194G; fT Min (MHz): 4; hFE Max: 80; IC Continuous (A): 16; Polarity: NPN; DatasheetVersion: Rev. 5; PackageVersion: Rev. F, 10/2011; PackageReference: TO-247-3-340L-02; PackageDescription: 3-Pin Flange Mount, Vertical Straight Lead, Body 16.005 x 5 mm, Pitch 5.45 mm; Supplier 1: Digi-Key; Supplier Part Number 1: MJW21194GOS-ND; Supplier 2: Farnell; Supplier Part Number 2: 1703989; Supplier 3: Newark; Supplier Part Number 3: 26K4500; Supplier 4: Mouser; Supplier Part Number 4: 863-MJW21194G; Packing: Tube; RoHS: TRUE; Mounting Technology: Through Hole; ComponentLink1Description: Manufacturer URL; ComponentLink1URL: http://www.onsemi.com/; ComponentLink2Description: Datasheet; ComponentLink2URL: http://www.onsemi.cn/pub_link/Collateral/MJW21193-D.PDF; ComponentLink3Description: Package Specification; ComponentLink3URL: http://www.onsemi.cn/pub_link/Collateral/340L-02.PDF
footprint ONSC-TO-247-3-340L-02 (FM, 3-Leads, Body 16.3x5.3mm, Pitch 5.45mm)
pins: 1 B, 2 C, 3 E

## MJW21195
designator Q?
Silicon Power Transistor, 3-Pin TO-247-3, Tube; Manufacturer: On Semiconductor; PartNumber: MJW21195; fT Min (MHz): 4; hFE Max: 80; IC Continuous (A): 16; Polarity: PNP; DatasheetVersion: Rev. 3; PackageVersion: Rev. F, 10/2011; PackageReference: TO-247-3-340L-02; PackageDescription: 3-Pin Flange Mount, Vertical Straight Lead, Body 16.005 x 5 mm, Pitch 5.45 mm; Supplier 1: Digi-Key; Supplier Part Number 1: MJW21195OS-ND; Packing: Tube; RoHS: FALSE; Mounting Technology: Through Hole; ComponentLink1Description: Manufacturer URL; ComponentLink1URL: http://www.onsemi.com/; ComponentLink2Description: Datasheet; ComponentLink2URL: http://www.onsemi.cn/pub_link/Collateral/MJW21195-D.PDF; ComponentLink3Description: Package Specification; ComponentLink3URL: http://www.onsemi.cn/pub_link/Collateral/340L-02.PDF
footprint ONSC-TO-247-3-340L-02 (FM, 3-Leads, Body 16.3x5.3mm, Pitch 5.45mm)
pins: 1 B, 2 C, 3 E

## MJW21195G
designator Q?
Silicon Power Transistor, 3-Pin TO-247-3, Pb-Free, Tube; Manufacturer: On Semiconductor; PartNumber: MJW21195G; fT Min (MHz): 4; hFE Max: 80; IC Continuous (A): 16; Polarity: PNP; DatasheetVersion: Rev. 3; PackageVersion: Rev. F, 10/2011; PackageReference: TO-247-3-340L-02; PackageDescription: 3-Pin Flange Mount, Vertical Straight Lead, Body 16.005 x 5 mm, Pitch 5.45 mm; Supplier 1: Digi-Key; Supplier Part Number 1: MJW21195GOS-ND; Supplier 2: Farnell; Supplier Part Number 2: 1700965; Supplier 3: Newark; Supplier Part Number 3: 26K4501; Supplier 4: Mouser; Supplier Part Number 4: 863-MJW21195G; Packing: Tube; RoHS: TRUE; Mounting Technology: Through Hole; ComponentLink1Description: Manufacturer URL; ComponentLink1URL: http://www.onsemi.com/; ComponentLink2Description: Datasheet; ComponentLink2URL: http://www.onsemi.cn/pub_link/Collateral/MJW21195-D.PDF; ComponentLink3Description: Package Specification; ComponentLink3URL: http://www.onsemi.cn/pub_link/Collateral/340L-02.PDF
footprint ONSC-TO-247-3-340L-02 (FM, 3-Leads, Body 16.3x5.3mm, Pitch 5.45mm)
pins: 1 B, 2 C, 3 E

## MJW21196
designator Q?
Silicon Power Transistor, 3-Pin TO-247-3, Tube; Manufacturer: On Semiconductor; PartNumber: MJW21196; fT Min (MHz): 4; hFE Max: 80; IC Continuous (A): 16; Polarity: NPN; DatasheetVersion: Rev. 3; PackageVersion: Rev. F, 10/2011; PackageReference: TO-247-3-340L-02; PackageDescription: 3-Pin Flange Mount, Vertical Straight Lead, Body 16.005 x 5 mm, Pitch 5.45 mm; Supplier 1: Digi-Key; Supplier Part Number 1: MJW21196OS-ND; Packing: Tube; RoHS: FALSE; Mounting Technology: Through Hole; ComponentLink1Description: Manufacturer URL; ComponentLink1URL: http://www.onsemi.com/; ComponentLink2Description: Datasheet; ComponentLink2URL: http://www.onsemi.cn/pub_link/Collateral/MJW21195-D.PDF; ComponentLink3Description: Package Specification; ComponentLink3URL: http://www.onsemi.cn/pub_link/Collateral/340L-02.PDF
footprint ONSC-TO-247-3-340L-02 (FM, 3-Leads, Body 16.3x5.3mm, Pitch 5.45mm)
pins: 1 B, 2 C, 3 E

## MJW21196G
designator Q?
Silicon Power Transistor, 3-Pin TO-247-3, Pb-Free, Tube; Manufacturer: On Semiconductor; PartNumber: MJW21196G; fT Min (MHz): 4; hFE Max: 80; IC Continuous (A): 16; Polarity: NPN; DatasheetVersion: Rev. 3; PackageVersion: Rev. F, 10/2011; PackageReference: TO-247-3-340L-02; PackageDescription: 3-Pin Flange Mount, Vertical Straight Lead, Body 16.005 x 5 mm, Pitch 5.45 mm; Supplier 1: Digi-Key; Supplier Part Number 1: MJW21196GOS-ND; Supplier 2: Farnell; Supplier Part Number 2: 1700966; Supplier 3: Newark; Supplier Part Number 3: 26K4502; Supplier 4: Mouser; Supplier Part Number 4: 863-MJW21196G; Packing: Tube; RoHS: TRUE; Mounting Technology: Through Hole; ComponentLink1Description: Manufacturer URL; ComponentLink1URL: http://www.onsemi.com/; ComponentLink2Description: Datasheet; ComponentLink2URL: http://www.onsemi.cn/pub_link/Collateral/MJW21195-D.PDF; ComponentLink3Description: Package Specification; ComponentLink3URL: http://www.onsemi.cn/pub_link/Collateral/340L-02.PDF
footprint ONSC-TO-247-3-340L-02 (FM, 3-Leads, Body 16.3x5.3mm, Pitch 5.45mm)
pins: 1 B, 2 C, 3 E

## NJD1718T4G
designator Q?
Power Transistor, PNP Silicon for Surface Mount Application, 3-Pin DPAK, Pb-Free, Tape and Reel; Manufacturer: On Semiconductor; PartNumber: NJD1718T4G; hFE Max: 240; IC Continuous (A): -2; DatasheetVersion: Rev. 4; PackageVersion: Rev. E, 02/2014; PackageReference: DPAK-3-369C-01; PackageDescription: 3-Pin Flange Mount, Body 6.54 x 6.095 mm, Pitch 2.29 mm; Supplier 1: Digi-Key; Supplier Part Number 1: NJD1718T4G-ND; Supplier 2: Newark; Supplier Part Number 2: 24T3452; Supplier 3: Mouser; Supplier Part Number 3: 863-NJD1718T4G; Packing: Tape and Reel; Polarity: PNP; RoHS: TRUE; Mounting Technology: Surface Mount; ComponentLink1Description: Manufacturer URL; ComponentLink1URL: http://www.onsemi.com/; ComponentLink2Description: Datasheet; ComponentLink2URL: http://www.onsemi.cn/pub_link/Collateral/NJD1718-D.PDF; ComponentLink3Description: Package Specification; ComponentLink3URL: http://www.onsemi.cn/pub_link/Collateral/369C.PDF
footprint ONSC-DPAK-3-369C-01_V (DPAK, 3-Leads, Body 6.54x6.095mm, Pitch 2.29mm)
pins: 1 B, 3 E, 4 C

## NJL3281D
designator U?
Complementary ThermalTrak(TM) Transistor, 5-Pin TO-264, Tube; Manufacturer: On Semiconductor; PartNumber: NJL3281D; fT Min (MHz): 30; hFE Max: 150; IC Continuous (A): 15; Polarity: NPN; DatasheetVersion: Rev. 2; PackageVersion: Rev. O; PackageReference: TO-264-5-340AA-01_O; PackageDescription: 5-Pin Flange Mount, Vertical Straight Lead, Body 19.888 x 5.055 mm, Pitch 3.81 mm; Supplier 1: Digi-Key; Supplier Part Number 1: NJL3281DOS-ND; Packing: Tube; RoHS: FALSE; Mounting Technology: Through Hole; ComponentLink1Description: Manufacturer URL; ComponentLink1URL: http://www.onsemi.com/; ComponentLink2Description: Datasheet; ComponentLink2URL: http://www.onsemi.com/pub_link/Collateral/NJL3281D-D.PDF; ComponentLink3Description: Package Specification; ComponentLink3URL: http://www.onsemi.com/pub_link/Collateral/NJL3281D-D.PDF
footprint ONSC-TO-264-5-340AA-01_O (FM, 5-Leads, Body 20.2x5.2mm, Pitch 3.81mm)
part A pins: 1 B, 2 E, 3 C
part B pins: 4 A, 5 K

## NJL3281DG
designator U?
Complementary ThermalTrak(TM) Transistor, 5-Pin TO-264, Pb-Free, Tube; Manufacturer: On Semiconductor; PartNumber: NJL3281DG; fT Min (MHz): 30; hFE Max: 150; IC Continuous (A): 15; Polarity: NPN; DatasheetVersion: Rev. 2; PackageVersion: Rev. O; PackageReference: TO-264-5-340AA-01_O; PackageDescription: 5-Pin Flange Mount, Vertical Straight Lead, Body 19.888 x 5.055 mm, Pitch 3.81 mm; Supplier 1: Digi-Key; Supplier Part Number 1: NJL3281DGOS-ND; Supplier 2: Farnell; Supplier Part Number 2: 1886924; Supplier 3: Newark; Supplier Part Number 3: 83K8663; Supplier 4: Mouser; Supplier Part Number 4: 863-NJL3281DG; Packing: Tube; RoHS: TRUE; Mounting Technology: Through Hole; ComponentLink1Description: Manufacturer URL; ComponentLink1URL: http://www.onsemi.com/; ComponentLink2Description: Datasheet; ComponentLink2URL: http://www.onsemi.com/pub_link/Collateral/NJL3281D-D.PDF; ComponentLink3Description: Package Specification; ComponentLink3URL: http://www.onsemi.com/pub_link/Collateral/NJL3281D-D.PDF
footprint ONSC-TO-264-5-340AA-01_O (FM, 5-Leads, Body 20.2x5.2mm, Pitch 3.81mm)
part A pins: 1 B, 2 E, 3 C
part B pins: 4 A, 5 K

## NJVMJD44H11G
designator Q?
Complementary Power Transistor, 3-Pin DPAK, Pb-Free, Tube; Manufacturer: On Semiconductor; PartNumber: NJVMJD44H11G; IC Continuous (A): 8; Polarity: NPN; DatasheetVersion: Rev. 16; PackageVersion: Rev. E, 02/2014; PackageReference: DPAK-3-369C-01; PackageDescription: 3-Pin Flange Mount, Body 6.54 x 6.095 mm, Pitch 2.29 mm; Supplier 1: Digi-Key; Supplier Part Number 1: NJVMJD44H11G-ND; Supplier 2: Mouser; Supplier Part Number 2: 863-NJVMJD44H11G; Packing: Tube; RoHS: TRUE; Mounting Technology: Surface Mount; ComponentLink1Description: Manufacturer URL; ComponentLink1URL: http://www.onsemi.com/; ComponentLink2Description: Datasheet; ComponentLink2URL: http://www.onsemi.cn/pub_link/Collateral/MJD44H11-D.PDF; ComponentLink3Description: Package Specification; ComponentLink3URL: http://www.onsemi.cn/pub_link/Collateral/369C.PDF
footprint ONSC-DPAK-3-369C-01_V (DPAK, 3-Leads, Body 6.54x6.095mm, Pitch 2.29mm)
pins: 1 B, 3 E, 4 C

## NJVMJD44H11RLG
designator Q?
Complementary Power Transistor, 3-Pin DPAK, Pb-Free, Tape and Reel; Manufacturer: On Semiconductor; PartNumber: NJVMJD44H11RLG; IC Continuous (A): 8; Polarity: NPN; DatasheetVersion: Rev. 16; PackageVersion: Rev. E, 02/2014; PackageReference: DPAK-3-369C-01; PackageDescription: 3-Pin Flange Mount, Body 6.54 x 6.095 mm, Pitch 2.29 mm; Supplier 1: Digi-Key; Supplier Part Number 1: NJVMJD44H11RLG-ND; Supplier 2: Newark; Supplier Part Number 2: 76T6467; Supplier 3: Mouser; Supplier Part Number 3: 863-NJVMJD44H11RLG; Packing: Tape and Reel; RoHS: TRUE; Mounting Technology: Surface Mount; ComponentLink1Description: Manufacturer URL; ComponentLink1URL: http://www.onsemi.com/; ComponentLink2Description: Datasheet; ComponentLink2URL: http://www.onsemi.cn/pub_link/Collateral/MJD44H11-D.PDF; ComponentLink3Description: Package Specification; ComponentLink3URL: http://www.onsemi.cn/pub_link/Collateral/369C.PDF
footprint ONSC-DPAK-3-369C-01_V (DPAK, 3-Leads, Body 6.54x6.095mm, Pitch 2.29mm)
pins: 1 B, 3 E, 4 C

## NJVMJD44H11T4G
designator Q?
Complementary Power Transistor, 3-Pin DPAK, Pb-Free, Tape and Reel; Manufacturer: On Semiconductor; PartNumber: NJVMJD44H11T4G; IC Continuous (A): 8; Polarity: NPN; DatasheetVersion: Rev. 16; PackageVersion: Rev. E, 02/2014; PackageReference: DPAK-3-369C-01; PackageDescription: 3-Pin Flange Mount, Body 6.54 x 6.095 mm, Pitch 2.29 mm; Supplier 1: Digi-Key; Supplier Part Number 1: NJVMJD44H11T4G-ND; Supplier 2: Newark; Supplier Part Number 2: 76T6468; Supplier 3: Mouser; Supplier Part Number 3: 863-NJVMJD44H11T4G; Packing: Tape and Reel; RoHS: TRUE; Mounting Technology: Surface Mount; ComponentLink1Description: Manufacturer URL; ComponentLink1URL: http://www.onsemi.com/; ComponentLink2Description: Datasheet; ComponentLink2URL: http://www.onsemi.cn/pub_link/Collateral/MJD44H11-D.PDF; ComponentLink3Description: Package Specification; ComponentLink3URL: http://www.onsemi.cn/pub_link/Collateral/369C.PDF
footprint ONSC-DPAK-3-369C-01_V (DPAK, 3-Leads, Body 6.54x6.095mm, Pitch 2.29mm)
pins: 1 B, 3 E, 4 C

## NJVMJD45H11RLG
designator Q?
Complementary Power Transistor, 3-Pin DPAK, Pb-Free, Tape and Reel; Manufacturer: On Semiconductor; PartNumber: NJVMJD45H11RLG; IC Continuous (A): 8; Polarity: PNP; DatasheetVersion: Rev. 16; PackageVersion: Rev. E, 02/2014; PackageReference: DPAK-3-369C-01; PackageDescription: 3-Pin Flange Mount, Body 6.54 x 6.095 mm, Pitch 2.29 mm; Supplier 1: Digi-Key; Supplier Part Number 1: NJVMJD45H11RLG-ND; Supplier 2: Mouser; Supplier Part Number 2: 863-NJVMJD45H11RLG; Packing: Tape and Reel; RoHS: TRUE; Mounting Technology: Surface Mount; ComponentLink1Description: Manufacturer URL; ComponentLink1URL: http://www.onsemi.com/; ComponentLink2Description: Datasheet; ComponentLink2URL: http://www.onsemi.cn/pub_link/Collateral/MJD44H11-D.PDF; ComponentLink3Description: Package Specification; ComponentLink3URL: http://www.onsemi.cn/pub_link/Collateral/369C.PDF
footprint ONSC-DPAK-3-369C-01_V (DPAK, 3-Leads, Body 6.54x6.095mm, Pitch 2.29mm)
pins: 1 B, 3 E, 4 C

## NJVMJD45H11T4G
designator Q?
Complementary Power Transistor, 3-Pin DPAK, Pb-Free, Tape and Reel; Manufacturer: On Semiconductor; PartNumber: NJVMJD45H11T4G; IC Continuous (A): 8; Polarity: PNP; DatasheetVersion: Rev. 16; PackageVersion: Rev. E, 02/2014; PackageReference: DPAK-3-369C-01; PackageDescription: 3-Pin Flange Mount, Body 6.54 x 6.095 mm, Pitch 2.29 mm; Supplier 1: Digi-Key; Supplier Part Number 1: NJVMJD45H11T4G-ND; Supplier 2: Mouser; Supplier Part Number 2: 863-NJVMJD45H11T4G; Packing: Tape and Reel; RoHS: TRUE; Mounting Technology: Surface Mount; ComponentLink1Description: Manufacturer URL; ComponentLink1URL: http://www.onsemi.com/; ComponentLink2Description: Datasheet; ComponentLink2URL: http://www.onsemi.cn/pub_link/Collateral/MJD44H11-D.PDF; ComponentLink3Description: Package Specification; ComponentLink3URL: http://www.onsemi.cn/pub_link/Collateral/369C.PDF
footprint ONSC-DPAK-3-369C-01_V (DPAK, 3-Leads, Body 6.54x6.095mm, Pitch 2.29mm)
pins: 1 B, 3 E, 4 C

## NJVMJD243T4G
designator Q?
Complementary Silicon Plastic Power Transistor, 3-Pin DPAK, Pb-Free, Tape and Reel; Manufacturer: On Semiconductor; PartNumber: NJVMJD243T4G; fT Min (MHz): 40; hFE Max: 180; IC Continuous (A): 4; Polarity: NPN; DatasheetVersion: Rev. 15; PackageVersion: Rev. E, 02/2014; PackageReference: DPAK-3-369C-01; PackageDescription: 3-Pin Flange Mount, Body 6.54 x 6.095 mm, Pitch 2.29 mm; Supplier 1: Digi-Key; Supplier Part Number 1: NJVMJD243T4G-ND; Supplier 2: Mouser; Supplier Part Number 2: 863-NJVMJD243T4G; Packing: Tape and Reel; RoHS: TRUE; Mounting Technology: Surface Mount; ComponentLink1Description: Manufacturer URL; ComponentLink1URL: http://www.onsemi.com/; ComponentLink2Description: Datasheet; ComponentLink2URL: http://www.onsemi.cn/pub_link/Collateral/MJD243-D.PDF; ComponentLink3Description: Package Specification; ComponentLink3URL: http://www.onsemi.cn/pub_link/Collateral/369C.PDF
footprint ONSC-DPAK-3-369C-01_V (DPAK, 3-Leads, Body 6.54x6.095mm, Pitch 2.29mm)
pins: 1 B, 3 E, 4 C

## NJVMJD253T4G
designator Q?
Complementary Silicon Plastic Power Transistor, 3-Pin DPAK, Pb-Free, Tape and Reel; Manufacturer: On Semiconductor; PartNumber: NJVMJD253T4G; Note: 0; fT Min (MHz): 40; hFE Max: 180; IC Continuous (A): 4; Polarity: PNP; DatasheetVersion: Rev. 15; PackageVersion: Rev. E, 02/2014; PackageReference: DPAK-3-369C-01; PackageDescription: 3-Pin Flange Mount, Body 6.54 x 6.095 mm, Pitch 2.29 mm; Packing: Tape and Reel; RoHS: TRUE; Mounting Technology: Surface Mount; ComponentLink1Description: Manufacturer URL; ComponentLink1URL: http://www.onsemi.com/; ComponentLink2Description: Datasheet; ComponentLink2URL: http://www.onsemi.cn/pub_link/Collateral/MJD243-D.PDF; ComponentLink3Description: Package Specification; ComponentLink3URL: http://www.onsemi.cn/pub_link/Collateral/369C.PDF
footprint ONSC-DPAK-3-369C-01_V (DPAK, 3-Leads, Body 6.54x6.095mm, Pitch 2.29mm)
pins: 1 B, 3 E, 4 C

## NJW0281G
designator Q?
Complementary NPN Power Bipolar Transistor, 3-Pin TO-3P-3LD, Pb-Free, Tube; Manufacturer: On Semiconductor; PartNumber: NJW0281G; fT Min (MHz): 30; hFE Max: 150; IC Continuous (A): 15; DatasheetVersion: Rev. 1; PackageVersion: Rev. A, 10/2007; PackageReference: TO-3P-3LD-3-340AB-01; PackageDescription: 3-Pin Flange Mount, Vertical Straight Lead, Body 15.6 x 4.8 mm, Pitch 5.45 mm; Supplier 1: Digi-Key; Supplier Part Number 1: NJW0281GOS-ND; Supplier 2: Farnell; Supplier Part Number 2: 2101384; Supplier 3: Newark; Supplier Part Number 3: 95M6875; Supplier 4: Mouser; Supplier Part Number 4: 863-NJW0281G; Packing: Tube; Polarity: NPN; RoHS: TRUE; Mounting Technology: Through Hole; ComponentLink1Description: Manufacturer URL; ComponentLink1URL: http://www.onsemi.com/; ComponentLink2Description: Datasheet; ComponentLink2URL: http://www.onsemi.com/pub_link/Collateral/NJW0281-D.PDF; ComponentLink3Description: Package Specification; ComponentLink3URL: http://www.onsemi.com/pub_link/Collateral/340AB.PDF
footprint ONSC-TO-3P-3LD-3-340AB-01 (FM, 3-Leads, Body 15.8x5mm, Pitch 5.45mm)
pins: 1 B, 2 C, 3 E